# Altium footprint library Passive.PcbLib: 91 footprints (part 3 of 6)
Each footprint in its own frame and in the unit in brackets; x right, y up, seen from the top. Pads: shape width x height; smd on the part's side, far side on the other; paste and mask are expansions set on the pad; w line width, h text height; cw(c..) or ccw(c..) is an arc to the next point about the centre after c.
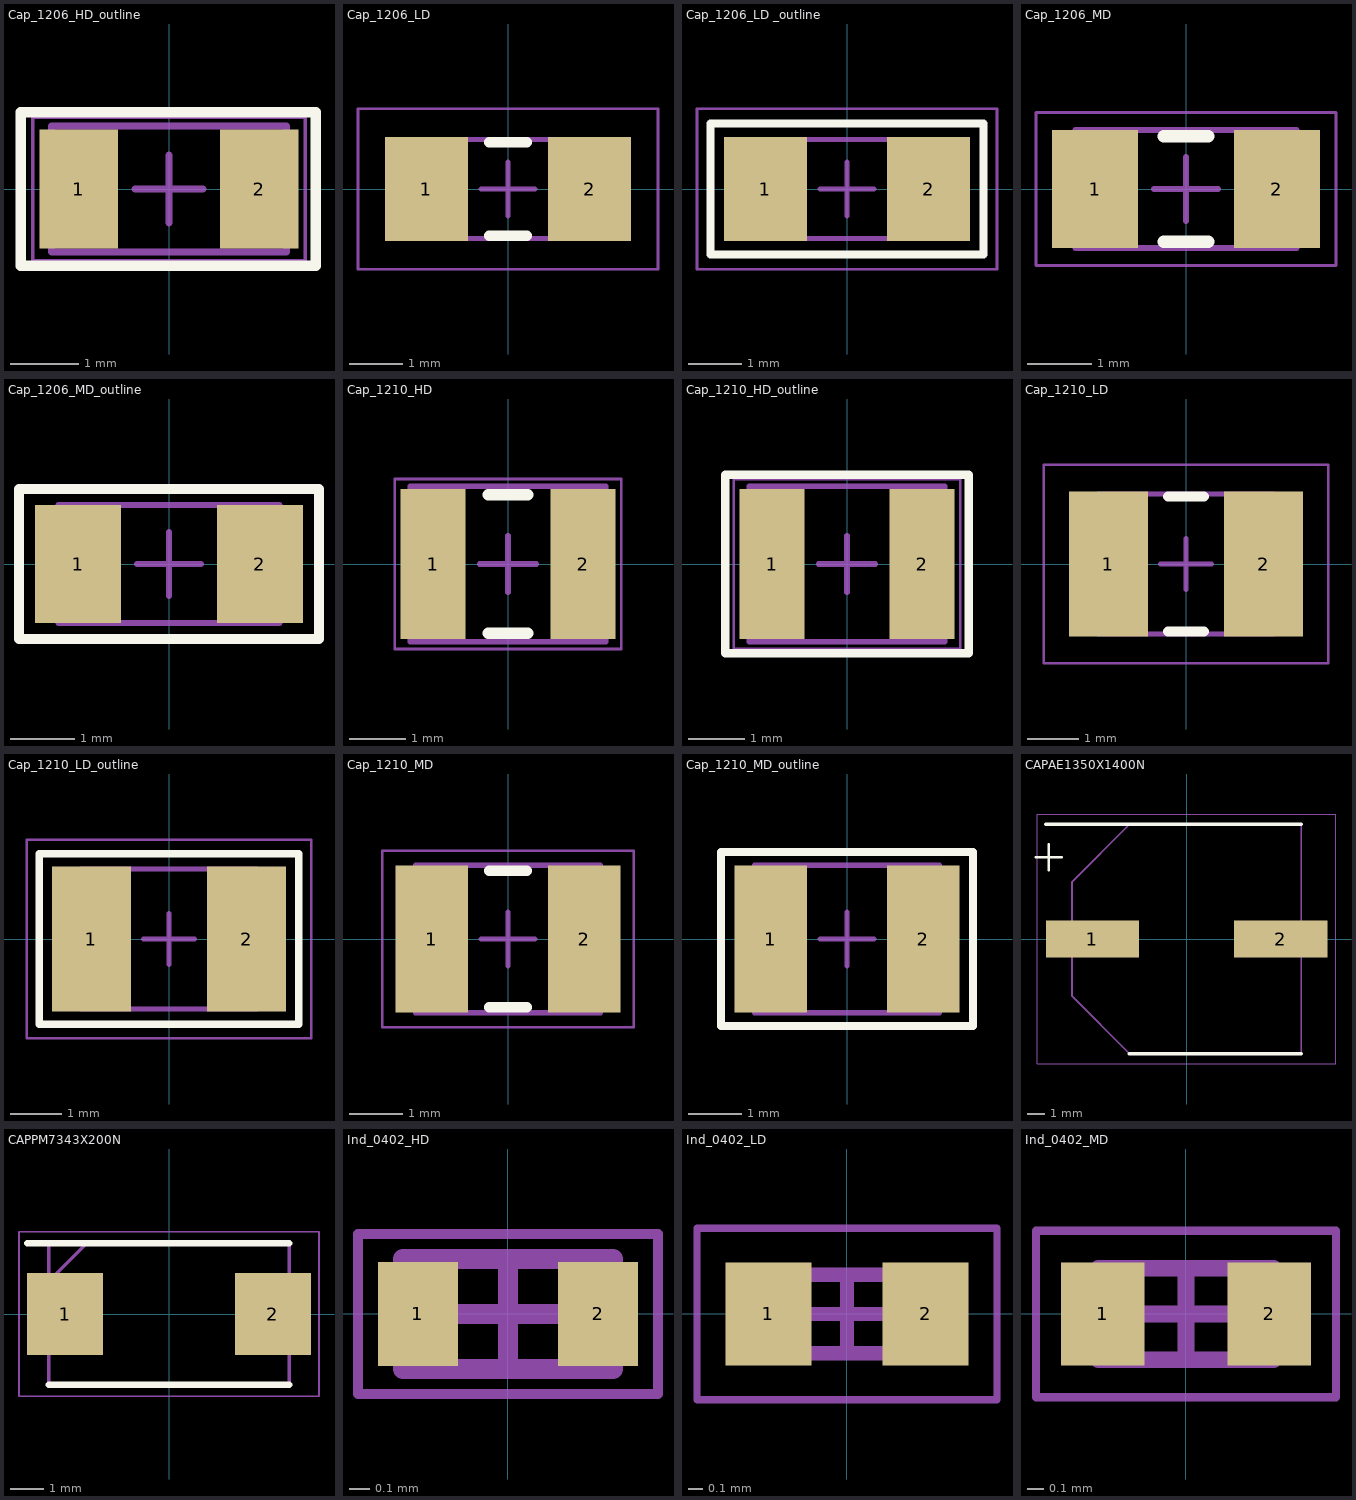
[diagram p2: the footprints below, top view; thin cyan lines are the x and y axes]

## Cap_1206_HD_outline [mm] "Chip Capacitor, 1206, IPC High Density with outline"
height 1.7
pads (2):
  rect 1.15x1.75 smd: 1(-1.325,0) 2(1.325,0)
Top Overlay:
  lines w0.152: -2.175,-1.125 -2.175,1.125 2.15,1.125 2.15,-1.125 -2.175,-1.125
Mechanical 13:
  lines w0.1: -1.725,-0.925 1.725,-0.925 1.725,0.925 -1.725,0.925 -1.725,-0.925
Mechanical 15:
  lines w0.05: -2,-1.05 2,-1.05 2,1.05 -2,1.05 -2,-1.05
  lines w0.1: -0.5,0 0.5,0 ; 0,-0.5 0,0.5
3D body "CAPC3216X17L.step": height 1.7, standoff 0, extent -1.725,-0.925 1.725,0.925

## Cap_1206_LD [mm] "Chip Capacitor, 1206, IPC Low Density"
height 1.7
pads (2):
  rect 1.55x1.95 smd: 1(-1.525,0) 2(1.525,0)
Top Overlay:
  lines w0.2: -0.35,-0.875 0.35,-0.875 ; -0.35,0.875 0.35,0.875
Mechanical 13:
  lines w0.1: -1.725,-0.925 -1.725,0.925 1.725,0.925 1.725,-0.925 -1.725,-0.925
Mechanical 15:
  lines w0.05: -2.8,-1.5 -2.8,1.5 2.8,1.5 2.8,-1.5 -2.8,-1.5
  lines w0.1: -0.5,0 0.5,0 ; 0,-0.5 0,0.5
3D body "CAPC3216X17M.step": height 1.7, standoff 0, extent -1.725,-0.925 1.725,0.925

## Cap_1206_LD _outline [mm] "Chip Capacitor, 1206, IPC Low Density with outline"
height 1.7
pads (2):
  rect 1.55x1.95 smd: 1(-1.525,0) 2(1.525,0)
Top Overlay:
  lines w0.152: -2.55,-1.225 -2.55,1.225 2.55,1.225 2.55,-1.225 -2.55,-1.225
Mechanical 13:
  lines w0.1: -1.725,-0.925 -1.725,0.925 1.725,0.925 1.725,-0.925 -1.725,-0.925
Mechanical 15:
  lines w0.05: -2.8,-1.5 -2.8,1.5 2.8,1.5 2.8,-1.5 -2.8,-1.5
  lines w0.1: -0.5,0 0.5,0 ; 0,-0.5 0,0.5
3D body "CAPC3216X17M.step": height 1.7, standoff 0, extent -1.725,-0.925 1.725,0.925

## Cap_1206_MD [mm] "Chip Capacitor, 1206, IPC Medium Density"
height 1.7
pads (2):
  rect 1.35x1.85 smd: 1(-1.425,0) 2(1.425,0)
Top Overlay:
  lines w0.2: -0.35,-0.825 0.35,-0.825 ; -0.35,0.825 0.35,0.825
Mechanical 13:
  lines w0.1: -1.725,-0.925 1.725,-0.925 1.725,0.925 -1.725,0.925 -1.725,-0.925
Mechanical 15:
  lines w0.05: -2.35,-1.2 2.35,-1.2 2.35,1.2 -2.35,1.2 -2.35,-1.2
  lines w0.1: -0.5,0 0.5,0 ; 0,-0.5 0,0.5
3D body "CAPC3216X17N.step": height 1.7, standoff 0, extent -1.725,-0.925 1.725,0.925

## Cap_1206_MD_outline [mm] "Chip Capacitor, 1206, IPC Medium Density with outline"
height 1.7
pads (2):
  rect 1.35x1.85 smd: 1(-1.425,0) 2(1.425,0)
Top Overlay:
  lines w0.152: -2.35,-1.175 -2.35,1.175 2.35,1.175 2.35,-1.175 -2.35,-1.175
Mechanical 13:
  lines w0.1: -1.725,-0.925 -1.725,0.925 1.725,0.925 1.725,-0.925 -1.725,-0.925
Mechanical 15:
  lines w0.05: -2.35,-1.2 -2.35,1.2 2.35,1.2 2.35,-1.2 -2.35,-1.2
  lines w0.1: -0.5,0 0.5,0 ; 0,-0.5 0,0.5
3D body "CAPC3216X17N.step": height 1.7, standoff 0, extent -1.725,-0.925 1.725,0.925

## Cap_1210_HD [mm] "Chip Capacitor, 1210, IPC High Density"
height 1.7
pads (2):
  rect 1.15x2.65 smd: 1(-1.325,0) 2(1.325,0)
Top Overlay:
  lines w0.2: -0.35,-1.225 0.35,-1.225 ; -0.35,1.225 0.35,1.225
Mechanical 13:
  lines w0.1: -1.725,-1.375 -1.725,1.375 1.725,1.375 1.725,-1.375 -1.725,-1.375
Mechanical 15:
  lines w0.05: -2,-1.5 -2,1.5 2,1.5 2,-1.5 -2,-1.5
  lines w0.1: -0.5,0 0.5,0 ; 0,-0.5 0,0.5
3D body "CAPC3225X17L.step": height 1.7, standoff 0, extent -1.725,-1.375 1.725,1.375

## Cap_1210_HD_outline [mm] "Chip Capacitor, 1210, IPC High Density with outline"
height 1.7
pads (2):
  rect 1.15x2.65 smd: 1(-1.325,0) 2(1.325,0)
Top Overlay:
  lines w0.152: -2.15,-1.575 2.15,-1.575 2.15,1.575 -2.15,1.575 -2.15,-1.575
Mechanical 13:
  lines w0.1: -1.725,-1.375 1.725,-1.375 1.725,1.375 -1.725,1.375 -1.725,-1.375
Mechanical 15:
  lines w0.05: -2,-1.5 2,-1.5 2,1.5 -2,1.5 -2,-1.5
  lines w0.1: -0.5,0 0.5,0 ; 0,-0.5 0,0.5
3D body "CAPC3225X17L.step": height 1.7, standoff 0, extent -1.725,-1.375 1.725,1.375

## Cap_1210_LD [mm] "Chip Capacitor, 1210, IPC Low Density"
height 1.7
pads (2):
  rect 1.55x2.85 smd: 1(-1.525,0) 2(1.525,0)
Top Overlay:
  lines w0.2: -0.35,-1.325 0.35,-1.325 ; -0.35,1.325 0.35,1.325
Mechanical 13:
  lines w0.1: -1.725,-1.375 1.725,-1.375 1.725,1.375 -1.725,1.375 -1.725,-1.375
Mechanical 15:
  lines w0.05: -2.8,-1.95 2.8,-1.95 2.8,1.95 -2.8,1.95 -2.8,-1.95
  lines w0.1: -0.5,0 0.5,0 ; 0,-0.5 0,0.5
3D body "CAPC3225X17M.step": height 1.7, standoff 0, extent -1.725,-1.375 1.725,1.375

## Cap_1210_LD_outline [mm] "Chip Capacitor, 1210, IPC Low Density with outline"
height 1.7
pads (2):
  rect 1.55x2.85 smd: 1(-1.525,0) 2(1.525,0)
Top Overlay:
  lines w0.152: -2.55,-1.675 2.55,-1.675 2.55,1.675 -2.55,1.675 -2.55,-1.675
Mechanical 13:
  lines w0.1: -1.725,-1.375 1.725,-1.375 1.725,1.375 -1.725,1.375 -1.725,-1.375
Mechanical 15:
  lines w0.05: -2.8,-1.95 2.8,-1.95 2.8,1.95 -2.8,1.95 -2.8,-1.95
  lines w0.1: -0.5,0 0.5,0 ; 0,-0.5 0,0.5
3D body "CAPC3225X17M.step": height 1.7, standoff 0, extent -1.725,-1.375 1.725,1.375

## Cap_1210_MD [mm] "Chip Capacitor, 1210, IPC Medium Density"
height 1.7
pads (2):
  rect 1.35x2.75 smd: 1(-1.425,0) 2(1.425,0)
Top Overlay:
  lines w0.2: -0.35,-1.275 0.35,-1.275 ; -0.35,1.275 0.35,1.275
Mechanical 13:
  lines w0.1: -1.725,-1.375 -1.725,1.375 1.725,1.375 1.725,-1.375 -1.725,-1.375
Mechanical 15:
  lines w0.05: -2.35,-1.65 -2.35,1.65 2.35,1.65 2.35,-1.65 -2.35,-1.65
  lines w0.1: -0.5,0 0.5,0 ; 0,-0.5 0,0.5
3D body "CAPC3225X17N.step": height 1.7, standoff 0, extent -1.725,-1.375 1.725,1.375

## Cap_1210_MD_outline [mm] "Chip Capacitor, 1210, IPC Medium Density with outline"
height 1.7
pads (2):
  rect 1.35x2.75 smd: 1(-1.425,0) 2(1.425,0)
Top Overlay:
  lines w0.152: -2.35,-1.625 -2.35,1.625 2.35,1.625 2.35,-1.625 -2.35,-1.625
Mechanical 13:
  lines w0.1: -1.725,-1.375 1.725,-1.375 1.725,1.375 -1.725,1.375 -1.725,-1.375
Mechanical 15:
  lines w0.05: -2.35,-1.65 2.35,-1.65 2.35,1.65 -2.35,1.65 -2.35,-1.65
  lines w0.1: -0.5,0 0.5,0 ; 0,-0.5 0,0.5
3D body "CAPC3225X17N.step": height 1.7, standoff 0, extent -1.725,-1.375 1.725,1.375

## CAPAE1350X1400N [mm]
pads (2):
  rect 5.5x2.2 smd: 1(-5.55,0) 2(5.55,0)
Top Overlay:
  lines w0.152: -8.876,4.826 -7.352,4.826 ; -8.128,4.064 -8.128,5.588
  lines w0.2: -8.3,6.75 6.75,6.75 ; -3.375,-6.75 6.75,-6.75
Mechanical 13:
  lines w0.1: -6.75,-3.375 -3.375,-6.75 6.75,-6.75 6.75,6.75 -3.375,6.75 -6.75,3.375 -6.75,-3.375
Mechanical 15:
  lines w0.05: -8.8,-7.35 -8.8,7.35 8.8,7.35 8.8,-7.35 -8.8,-7.35
3D body "EEE-FK1E102AQ.stp": height 14, standoff 0, extent -7.5,-6.85 7.5,6.85

## CAPPM7343X200N [mm]
pads (2):
  rect 2.3x2.5 smd: 1(-3.15,0) 2(3.15,0)
Top Overlay:
  lines w0.2: -4.3,2.15 3.65,2.15 ; -3.65,-2.15 3.65,-2.15
Mechanical 13:
  lines w0.1: -3.65,1 -2.5,2.15 ; -3.65,-2.15 3.65,-2.15 3.65,2.15 -3.65,2.15 -3.65,-2.15
Mechanical 15:
  lines w0.05: -4.55,-2.5 4.55,-2.5 4.55,2.5 -4.55,2.5 -4.55,-2.5
3D body "ECASD41C476M040KA0.stp": height 2, standoff 0, extent -3.65,-2.15 3.65,2.15

## Ind_0402_HD [mm] "Chip Inductor, 0402, IPC High Density"
height 0.61
pads (2):
  rect 0.4x0.52 smd: 1(-0.45,0) 2(0.45,0)
Mechanical 13:
  lines w0.1: -0.525,-0.275 0.525,-0.275 0.525,0.275 -0.525,0.275 -0.525,-0.275
Mechanical 15:
  lines w0.05: -0.75,-0.4 0.75,-0.4 0.75,0.4 -0.75,0.4 -0.75,-0.4
  lines w0.1: -0.275,0 0.275,0 ; 0,-0.275 0,0.275
3D body "BK1005LL050-T--3DModel-STEP-1.STEP": height 0.5, standoff 0, extent -0.5,-0.275 0.5,0.275

## Ind_0402_LD [mm] "Chip Inductor, 0402, IPC Low Density"
height 0.61
pads (2):
  rect 0.6x0.72 smd: 1(-0.55,0) 2(0.55,0)
Mechanical 13:
  lines w0.1: -0.525,-0.275 0.525,-0.275 0.525,0.275 -0.525,0.275 -0.525,-0.275
Mechanical 15:
  lines w0.05: -1.05,-0.6 1.05,-0.6 1.05,0.6 -1.05,0.6 -1.05,-0.6
  lines w0.1: -0.275,0 0.275,0 ; 0,-0.275 0,0.275
3D body "INDC1005X06M.step": height 0.61, standoff 0, extent -0.525,-0.275 0.525,0.275

## Ind_0402_MD [mm] "Chip Inductor, 0402, IPC Medium Density"
height 0.61
pads (2):
  rect 0.5x0.62 smd: 1(-0.5,0) 2(0.5,0)
Mechanical 13:
  lines w0.1: -0.525,-0.275 -0.525,0.275 0.525,0.275 0.525,-0.275 -0.525,-0.275
Mechanical 15:
  lines w0.05: -0.9,-0.5 -0.9,0.5 0.9,0.5 0.9,-0.5 -0.9,-0.5
  lines w0.1: -0.275,0 0.275,0 ; 0,-0.275 0,0.275
3D body "INDC1005X06N.step": height 0.61, standoff 0, extent -0.525,-0.275 0.525,0.275